# Altium integrated library Diodes - TVS.IntLib: 5379 symbols (part 86 of 122)
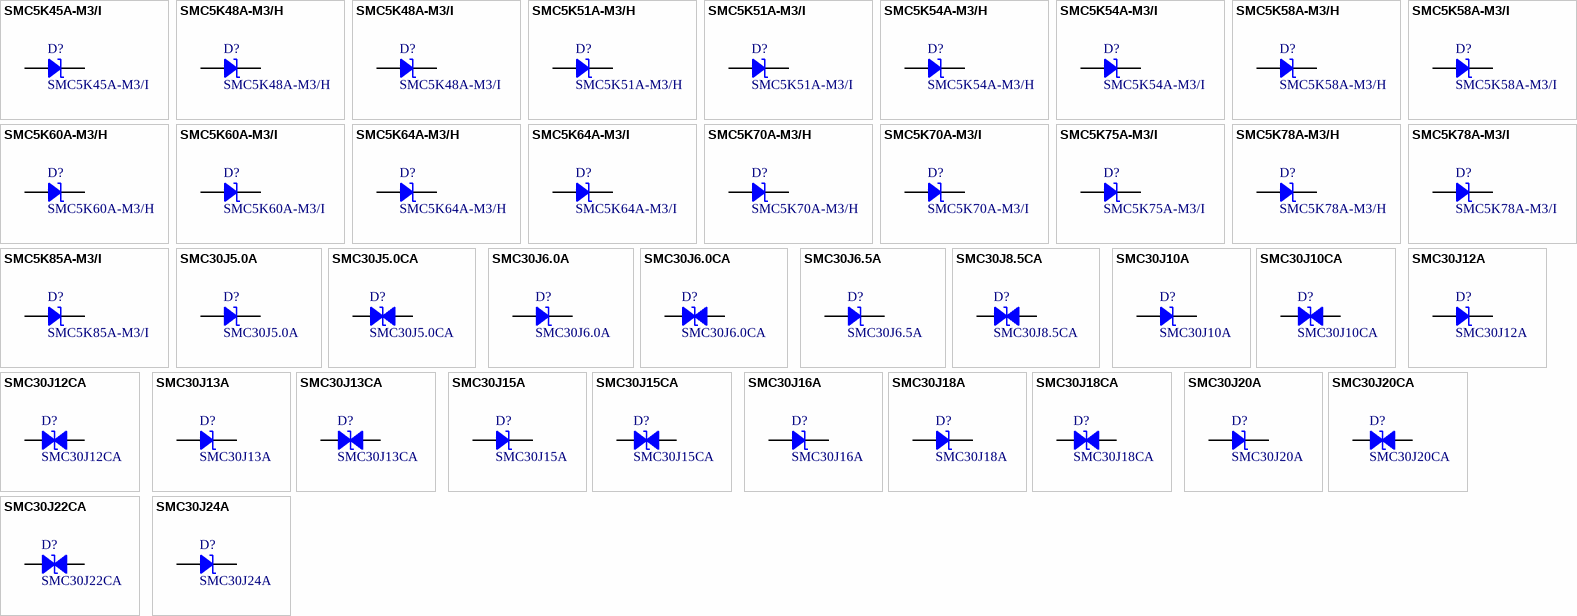
[diagram p219: symbols SMC5K45A-M3/I to SMC30J24A]

## SMC5K60A-M3/H
designator D?
TVS DIODE 60V 96.8V DO214AB; Manufacturer: Vishay Semiconductor Diodes Division; Current - Peak Pulse (10/1000µs): 51.7A; Power Line Protection: No; Power - Peak Pulse: 5000W (5kW); Type: Zener; Unidirectional Channels: 1; Voltage - Breakdown (Min): 66.7V; Part Number: SMC5K60A-M3/H; Applications: Automotive; ComponentLink1Description: Datasheet; ComponentLink1URL: http://www.vishay.com/docs/87742/smc5k10a.pdf; ComponentLink2Description: DigiKey Link; ComponentLink2URL: http://digikey.com/product-detail/en/vishay-semiconductor-diodes-division/SMC5K60A-M3-H/SMC5K60A-M3-HGICT-ND/7427275; LastUpdated: 9/2/2020 1:20:04 AM; Lifecycle Status: Active; Minimum Order: 1; Mounting Type: Surface Mount; Operating Temperature: -55°C ~ 150°C (TJ); Package / Case: DO-214AB, SMC; Packaging: TapeAndReel; PartId: 6844; Part Status: Active; Price: 0.46; Series: Automotive, AEC-Q101, TransZorb®; Supplier 1: DigiKey; Supplier Part Number 1: SMC5K60A-M3/HGICT-ND; Supplier Device Package: DO-214AB (SMC); Voltage - Clamping (Max) @ Ipp: 96.8V; Voltage - Reverse Standoff (Typ): 60V
footprint DO214AB SMC
pins: 1, 2

## SMC5K60A-M3/I
designator D?
TVS DIODE 60V 96.8V DO214AB; Manufacturer: Vishay Semiconductor Diodes Division; Current - Peak Pulse (10/1000µs): 51.7A; Power Line Protection: No; Power - Peak Pulse: 5000W (5kW); Type: Zener; Unidirectional Channels: 1; Voltage - Breakdown (Min): 66.7V; Part Number: SMC5K60A-M3/I; Applications: Automotive; ComponentLink1Description: Datasheet; ComponentLink1URL: http://www.vishay.com/docs/87742/smc5k10a.pdf; ComponentLink2Description: DigiKey Link; ComponentLink2URL: http://digikey.com/product-detail/en/vishay-semiconductor-diodes-division/SMC5K60A-M3-I/SMC5K60A-M3-IGICT-ND/7427276; LastUpdated: 9/2/2020 1:20:04 AM; Lifecycle Status: Active; Minimum Order: 1; Mounting Type: Surface Mount; Operating Temperature: -55°C ~ 150°C (TJ); Package / Case: DO-214AB, SMC; Packaging: TapeAndReel; PartId: 6845; Part Status: Active; Price: 0.37; Series: Automotive, AEC-Q101, TransZorb®; Supplier 1: DigiKey; Supplier Part Number 1: SMC5K60A-M3/IGICT-ND; Supplier Device Package: DO-214AB (SMC); Voltage - Clamping (Max) @ Ipp: 96.8V; Voltage - Reverse Standoff (Typ): 60V
footprint DO214AB SMC
pins: 1, 2

## SMC5K64A-M3/H
designator D?
TVS DIODE 64V 103V DO214AB; Manufacturer: Vishay Semiconductor Diodes Division; Current - Peak Pulse (10/1000µs): 48.5A; Power Line Protection: No; Power - Peak Pulse: 5000W (5kW); Type: Zener; Unidirectional Channels: 1; Voltage - Breakdown (Min): 71.1V; Part Number: SMC5K64A-M3/H; Applications: Automotive; ComponentLink1Description: Datasheet; ComponentLink1URL: http://www.vishay.com/docs/87742/smc5k10a.pdf; ComponentLink2Description: DigiKey Link; ComponentLink2URL: http://digikey.com/product-detail/en/vishay-semiconductor-diodes-division/SMC5K64A-M3-H/SMC5K64A-M3-HGICT-ND/7427277; LastUpdated: 9/2/2020 1:20:05 AM; Lifecycle Status: Active; Minimum Order: 1; Mounting Type: Surface Mount; Operating Temperature: -55°C ~ 150°C (TJ); Package / Case: DO-214AB, SMC; Packaging: TapeAndReel; PartId: 6913; Part Status: Active; Price: 0.46; Series: Automotive, AEC-Q101, TransZorb®; Supplier 1: DigiKey; Supplier Part Number 1: SMC5K64A-M3/HGICT-ND; Supplier Device Package: DO-214AB (SMC); Voltage - Clamping (Max) @ Ipp: 103V; Voltage - Reverse Standoff (Typ): 64V
footprint DO214AB SMC
pins: 1, 2

## SMC5K64A-M3/I
designator D?
TVS DIODE 64V 103V DO214AB; Manufacturer: Vishay Semiconductor Diodes Division; Current - Peak Pulse (10/1000µs): 48.5A; Power Line Protection: No; Power - Peak Pulse: 5000W (5kW); Type: Zener; Unidirectional Channels: 1; Voltage - Breakdown (Min): 71.1V; Part Number: SMC5K64A-M3/I; Applications: Automotive; ComponentLink1Description: Datasheet; ComponentLink1URL: http://www.vishay.com/docs/87742/smc5k10a.pdf; ComponentLink2Description: DigiKey Link; ComponentLink2URL: http://digikey.com/product-detail/en/vishay-semiconductor-diodes-division/SMC5K64A-M3-I/SMC5K64A-M3-IGICT-ND/7427278; LastUpdated: 9/2/2020 1:20:04 AM; Lifecycle Status: Active; Minimum Order: 1; Mounting Type: Surface Mount; Operating Temperature: -55°C ~ 150°C (TJ); Package / Case: DO-214AB, SMC; Packaging: TapeAndReel; PartId: 6848; Part Status: Active; Price: 0.37; Series: Automotive, AEC-Q101, TransZorb®; Supplier 1: DigiKey; Supplier Part Number 1: SMC5K64A-M3/IGICT-ND; Supplier Device Package: DO-214AB (SMC); Voltage - Clamping (Max) @ Ipp: 103V; Voltage - Reverse Standoff (Typ): 64V
footprint DO214AB SMC
pins: 1, 2

## SMC5K70A-M3/H
designator D?
TVS DIODE 70V 113V DO214AB; Manufacturer: Vishay Semiconductor Diodes Division; Current - Peak Pulse (10/1000µs): 44.2A; Power Line Protection: No; Power - Peak Pulse: 5000W (5kW); Type: Zener; Unidirectional Channels: 1; Voltage - Breakdown (Min): 77.8V; Part Number: SMC5K70A-M3/H; Applications: Automotive; ComponentLink1Description: Datasheet; ComponentLink1URL: http://www.vishay.com/docs/87742/smc5k10a.pdf; ComponentLink2Description: DigiKey Link; ComponentLink2URL: http://digikey.com/product-detail/en/vishay-semiconductor-diodes-division/SMC5K70A-M3-H/SMC5K70A-M3-HGICT-ND/7427279; LastUpdated: 9/2/2020 1:20:04 AM; Lifecycle Status: Active; Minimum Order: 1; Mounting Type: Surface Mount; Operating Temperature: -55°C ~ 150°C (TJ); Package / Case: DO-214AB, SMC; Packaging: TapeAndReel; PartId: 6854; Part Status: Active; Price: 0.46; Series: Automotive, AEC-Q101, TransZorb®; Supplier 1: DigiKey; Supplier Part Number 1: SMC5K70A-M3/HGICT-ND; Supplier Device Package: DO-214AB (SMC); Voltage - Clamping (Max) @ Ipp: 113V; Voltage - Reverse Standoff (Typ): 70V
footprint DO214AB SMC
pins: 1, 2

## SMC5K70A-M3/I
designator D?
TVS DIODE 70V 113V DO214AB; Manufacturer: Vishay Semiconductor Diodes Division; Current - Peak Pulse (10/1000µs): 44.2A; Power Line Protection: No; Power - Peak Pulse: 5000W (5kW); Type: Zener; Unidirectional Channels: 1; Voltage - Breakdown (Min): 77.8V; Part Number: SMC5K70A-M3/I; Applications: Automotive; ComponentLink1Description: Datasheet; ComponentLink1URL: http://www.vishay.com/docs/87742/smc5k10a.pdf; ComponentLink2Description: DigiKey Link; ComponentLink2URL: http://digikey.com/product-detail/en/vishay-semiconductor-diodes-division/SMC5K70A-M3-I/SMC5K70A-M3-IGICT-ND/7427280; LastUpdated: 9/2/2020 1:20:04 AM; Lifecycle Status: Active; Minimum Order: 1; Mounting Type: Surface Mount; Operating Temperature: -55°C ~ 150°C (TJ); Package / Case: DO-214AB, SMC; Packaging: TapeAndReel; PartId: 6869; Part Status: Active; Price: 0.37; Series: Automotive, AEC-Q101, TransZorb®; Supplier 1: DigiKey; Supplier Part Number 1: SMC5K70A-M3/IGICT-ND; Supplier Device Package: DO-214AB (SMC); Voltage - Clamping (Max) @ Ipp: 113V; Voltage - Reverse Standoff (Typ): 70V
footprint DO214AB SMC
pins: 1, 2

## SMC5K75A-M3/I
designator D?
TVS DIODE 75V 121V DO214AB; Manufacturer: Vishay Semiconductor Diodes Division; Current - Peak Pulse (10/1000µs): 41.3A; Power Line Protection: No; Power - Peak Pulse: 5000W (5kW); Type: Zener; Unidirectional Channels: 1; Voltage - Breakdown (Min): 83.3V; Part Number: SMC5K75A-M3/I; Applications: Automotive; ComponentLink1Description: Datasheet; ComponentLink1URL: http://www.vishay.com/docs/87742/smc5k10a.pdf; ComponentLink2Description: DigiKey Link; ComponentLink2URL: http://digikey.com/product-detail/en/vishay-semiconductor-diodes-division/SMC5K75A-M3-I/SMC5K75A-M3-IGICT-ND/7427282; LastUpdated: 9/2/2020 1:20:04 AM; Lifecycle Status: Active; Minimum Order: 1; Mounting Type: Surface Mount; Operating Temperature: -55°C ~ 150°C (TJ); Package / Case: DO-214AB, SMC; Packaging: TapeAndReel; PartId: 6868; Part Status: Active; Price: 0.37; Series: Automotive, AEC-Q101, TransZorb®; Supplier 1: DigiKey; Supplier Part Number 1: SMC5K75A-M3/IGICT-ND; Supplier Device Package: DO-214AB (SMC); Voltage - Clamping (Max) @ Ipp: 121V; Voltage - Reverse Standoff (Typ): 75V
footprint DO214AB SMC
pins: 1, 2

## SMC5K78A-M3/H
designator D?
TVS DIODE 78V 126V DO214AB; Manufacturer: Vishay Semiconductor Diodes Division; Current - Peak Pulse (10/1000µs): 39.7A; Power Line Protection: No; Power - Peak Pulse: 5000W (5kW); Type: Zener; Unidirectional Channels: 1; Voltage - Breakdown (Min): 86.7V; Part Number: SMC5K78A-M3/H; Applications: Automotive; ComponentLink1Description: Datasheet; ComponentLink1URL: http://www.vishay.com/docs/87742/smc5k10a.pdf; ComponentLink2Description: DigiKey Link; ComponentLink2URL: http://digikey.com/product-detail/en/vishay-semiconductor-diodes-division/SMC5K78A-M3-H/SMC5K78A-M3-HGICT-ND/7427283; LastUpdated: 9/2/2020 1:20:07 AM; Lifecycle Status: Active; Minimum Order: 1; Mounting Type: Surface Mount; Operating Temperature: -55°C ~ 150°C (TJ); Package / Case: DO-214AB, SMC; Packaging: TapeAndReel; PartId: 7169; Part Status: Active; Price: 0.46; Series: Automotive, AEC-Q101, TransZorb®; Supplier 1: DigiKey; Supplier Part Number 1: SMC5K78A-M3/HGICT-ND; Supplier Device Package: DO-214AB (SMC); Voltage - Clamping (Max) @ Ipp: 126V; Voltage - Reverse Standoff (Typ): 78V
footprint DO214AB SMC
pins: 1, 2

## SMC5K78A-M3/I
designator D?
TVS DIODE 78V 126V DO214AB; Manufacturer: Vishay Semiconductor Diodes Division; Current - Peak Pulse (10/1000µs): 39.7A; Power Line Protection: No; Power - Peak Pulse: 5000W (5kW); Type: Zener; Unidirectional Channels: 1; Voltage - Breakdown (Min): 86.7V; Part Number: SMC5K78A-M3/I; Applications: Automotive; ComponentLink1Description: Datasheet; ComponentLink1URL: http://www.vishay.com/docs/87742/smc5k10a.pdf; ComponentLink2Description: DigiKey Link; ComponentLink2URL: http://digikey.com/product-detail/en/vishay-semiconductor-diodes-division/SMC5K78A-M3-I/SMC5K78A-M3-IGICT-ND/7427284; LastUpdated: 9/2/2020 1:20:07 AM; Lifecycle Status: Active; Minimum Order: 1; Mounting Type: Surface Mount; Operating Temperature: -55°C ~ 150°C (TJ); Package / Case: DO-214AB, SMC; Packaging: TapeAndReel; PartId: 7183; Part Status: Active; Price: 0.37; Series: Automotive, AEC-Q101, TransZorb®; Supplier 1: DigiKey; Supplier Part Number 1: SMC5K78A-M3/IGICT-ND; Supplier Device Package: DO-214AB (SMC); Voltage - Clamping (Max) @ Ipp: 126V; Voltage - Reverse Standoff (Typ): 78V
footprint DO214AB SMC
pins: 1, 2

## SMC5K85A-M3/I
designator D?
TVS DIODE 85V 137V DO214AB; Manufacturer: Vishay Semiconductor Diodes Division; Current - Peak Pulse (10/1000µs): 36.5A; Power Line Protection: No; Power - Peak Pulse: 5000W (5kW); Type: Zener; Unidirectional Channels: 1; Voltage - Breakdown (Min): 94.4V; Part Number: SMC5K85A-M3/I; Applications: Automotive; ComponentLink1Description: Datasheet; ComponentLink1URL: http://www.vishay.com/docs/87742/smc5k10a.pdf; ComponentLink2Description: DigiKey Link; ComponentLink2URL: http://digikey.com/product-detail/en/vishay-semiconductor-diodes-division/SMC5K85A-M3-I/SMC5K85A-M3-IGICT-ND/7427286; LastUpdated: 9/2/2020 1:20:04 AM; Lifecycle Status: Active; Minimum Order: 1; Mounting Type: Surface Mount; Operating Temperature: -55°C ~ 150°C (TJ); Package / Case: DO-214AB, SMC; Packaging: TapeAndReel; PartId: 6867; Part Status: Active; Price: 0.37; Series: Automotive, AEC-Q101, TransZorb®; Supplier 1: DigiKey; Supplier Part Number 1: SMC5K85A-M3/IGICT-ND; Supplier Device Package: DO-214AB (SMC); Voltage - Clamping (Max) @ Ipp: 137V; Voltage - Reverse Standoff (Typ): 85V
footprint DO214AB SMC
pins: 1, 2

## SMC30J5.0A
designator D?
TVS DIODE 5V 9.2V SMC; Manufacturer: STMicroelectronics; Current - Peak Pulse (10/1000µs): 327A; Power Line Protection: No; Power - Peak Pulse: 3000W (3kW); Type: Zener; Unidirectional Channels: 1; Voltage - Breakdown (Min): 6.4V; Part Number: SMC30J5.0A; Applications: General Purpose; ComponentLink1Description: Datasheet; ComponentLink1URL: http://www.st.com/content/ccc/resource/technical/document/datasheet/83/fa/eb/3e/f9/c8/4f/44/DM00035134.pdf/files/DM00035134.pdf/jcr:content/translations/en.DM00035134.pdf; ComponentLink2Description: DigiKey Link; ComponentLink2URL: http://digikey.com/product-detail/en/stmicroelectronics/SMC30J5.0A/497-12222-1-ND/2826695; LastUpdated: 9/2/2020 1:20:02 AM; Lifecycle Status: Active; Minimum Order: 1; Mounting Type: Surface Mount; Operating Temperature: -55°C ~ 175°C (TJ); Package / Case: DO-214AB, SMC; Packaging: TapeAndReel; PartId: 6610; Part Status: Active; Price: 0.41; Series: SMC30J, TRANSIL™; Supplier 1: DigiKey; Supplier Part Number 1: 497-12222-1-ND; Supplier Device Package: SMC; Voltage - Clamping (Max) @ Ipp: 9.2V; Voltage - Reverse Standoff (Typ): 5V
footprint DO214AB SMC
pins: 1, 2

## SMC30J5.0CA
designator D?
TVS DIODE 5V 9.2V SMC; Manufacturer: STMicroelectronics; Bidirectional Channels: 1; Current - Peak Pulse (10/1000µs): 327A; Power Line Protection: No; Power - Peak Pulse: 3000W (3kW); Type: Zener; Voltage - Breakdown (Min): 6.4V; Part Number: SMC30J5.0CA; Applications: General Purpose; ComponentLink1Description: Datasheet; ComponentLink1URL: http://www.st.com/content/ccc/resource/technical/document/datasheet/83/fa/eb/3e/f9/c8/4f/44/DM00035134.pdf/files/DM00035134.pdf/jcr:content/translations/en.DM00035134.pdf; ComponentLink2Description: DigiKey Link; ComponentLink2URL: http://digikey.com/product-detail/en/stmicroelectronics/SMC30J5.0CA/497-12223-1-ND/2826696; LastUpdated: 9/2/2020 1:28:08 AM; Lifecycle Status: Active; Minimum Order: 1; Mounting Type: Surface Mount; Operating Temperature: -55°C ~ 175°C (TJ); Package / Case: DO-214AB, SMC; Packaging: TapeAndReel; PartId: 8619; Part Status: Active; Price: 0.43; Series: SMC30J, TRANSIL™; Supplier 1: DigiKey; Supplier Part Number 1: 497-12223-1-ND; Supplier Device Package: SMC; Voltage - Clamping (Max) @ Ipp: 9.2V; Voltage - Reverse Standoff (Typ): 5V
footprint DO214AB SMC
pins: 1, 2

## SMC30J6.0A
designator D?
TVS DIODE 6V 10.3V SMC; Manufacturer: STMicroelectronics; Current - Peak Pulse (10/1000µs): 291A; Power Line Protection: No; Power - Peak Pulse: 3000W (3kW); Type: Zener; Unidirectional Channels: 1; Voltage - Breakdown (Min): 6.7V; Part Number: SMC30J6.0A; Applications: General Purpose; ComponentLink1Description: Datasheet; ComponentLink1URL: http://www.st.com/content/ccc/resource/technical/document/datasheet/83/fa/eb/3e/f9/c8/4f/44/DM00035134.pdf/files/DM00035134.pdf/jcr:content/translations/en.DM00035134.pdf; ComponentLink2Description: DigiKey Link; ComponentLink2URL: http://digikey.com/product-detail/en/stmicroelectronics/SMC30J6.0A/497-12224-1-ND/2826697; LastUpdated: 9/2/2020 1:20:06 AM; Lifecycle Status: Active; Minimum Order: 1; Mounting Type: Surface Mount; Operating Temperature: -55°C ~ 175°C (TJ); Package / Case: DO-214AB, SMC; Packaging: TapeAndReel; PartId: 7011; Part Status: Active; Price: 0.41; Series: SMC30J, TRANSIL™; Supplier 1: DigiKey; Supplier Part Number 1: 497-12224-1-ND; Supplier Device Package: SMC; Voltage - Clamping (Max) @ Ipp: 10.3V; Voltage - Reverse Standoff (Typ): 6V
footprint DO214AB SMC
pins: 1, 2

## SMC30J6.0CA
designator D?
TVS DIODE 6V 10.3V SMC; Manufacturer: STMicroelectronics; Bidirectional Channels: 1; Current - Peak Pulse (10/1000µs): 291A; Power Line Protection: No; Power - Peak Pulse: 3000W (3kW); Type: Zener; Voltage - Breakdown (Min): 6.7V; Part Number: SMC30J6.0CA; Applications: General Purpose; ComponentLink1Description: Datasheet; ComponentLink1URL: http://www.st.com/content/ccc/resource/technical/document/datasheet/83/fa/eb/3e/f9/c8/4f/44/DM00035134.pdf/files/DM00035134.pdf/jcr:content/translations/en.DM00035134.pdf; ComponentLink2Description: DigiKey Link; ComponentLink2URL: http://digikey.com/product-detail/en/stmicroelectronics/SMC30J6.0CA/497-12225-1-ND/2826698; LastUpdated: 9/2/2020 1:28:08 AM; Lifecycle Status: Active; Minimum Order: 1; Mounting Type: Surface Mount; Operating Temperature: -55°C ~ 175°C (TJ); Package / Case: DO-214AB, SMC; Packaging: TapeAndReel; PartId: 8632; Part Status: Active; Price: 0.43; Series: SMC30J, TRANSIL™; Supplier 1: DigiKey; Supplier Part Number 1: 497-12225-1-ND; Supplier Device Package: SMC; Voltage - Clamping (Max) @ Ipp: 10.3V; Voltage - Reverse Standoff (Typ): 6V
footprint DO214AB SMC
pins: 1, 2

## SMC30J6.5A
designator D?
TVS DIODE 6.5V 11.2V SMC; Manufacturer: STMicroelectronics; Current - Peak Pulse (10/1000µs): 268A; Power Line Protection: No; Power - Peak Pulse: 3000W (3kW); Type: Zener; Unidirectional Channels: 1; Voltage - Breakdown (Min): 7.2V; Part Number: SMC30J6.5A; Applications: General Purpose; ComponentLink1Description: Datasheet; ComponentLink1URL: http://www.st.com/content/ccc/resource/technical/document/datasheet/83/fa/eb/3e/f9/c8/4f/44/DM00035134.pdf/files/DM00035134.pdf/jcr:content/translations/en.DM00035134.pdf; ComponentLink2Description: DigiKey Link; ComponentLink2URL: http://digikey.com/product-detail/en/stmicroelectronics/SMC30J6.5A/497-12226-1-ND/2826699; LastUpdated: 9/2/2020 1:20:07 AM; Lifecycle Status: Active; Minimum Order: 1; Mounting Type: Surface Mount; Operating Temperature: -55°C ~ 175°C (TJ); Package / Case: DO-214AB, SMC; Packaging: TapeAndReel; PartId: 7095; Part Status: Active; Price: 0.41; Series: SMC30J, TRANSIL™; Supplier 1: DigiKey; Supplier Part Number 1: 497-12226-1-ND; Supplier Device Package: SMC; Voltage - Clamping (Max) @ Ipp: 11.2V; Voltage - Reverse Standoff (Typ): 6.5V
footprint DO214AB SMC
pins: 1, 2

## SMC30J8.5CA
designator D?
TVS DIODE 8.5V 14.4V SMC; Manufacturer: STMicroelectronics; Bidirectional Channels: 1; Current - Peak Pulse (10/1000µs): 208A; Power Line Protection: No; Power - Peak Pulse: 3000W (3kW); Type: Zener; Voltage - Breakdown (Min): 9.4V; Part Number: SMC30J8.5CA; Applications: General Purpose; ComponentLink1Description: Datasheet; ComponentLink1URL: http://www.st.com/content/ccc/resource/technical/document/datasheet/83/fa/eb/3e/f9/c8/4f/44/DM00035134.pdf/files/DM00035134.pdf/jcr:content/translations/en.DM00035134.pdf; ComponentLink2Description: DigiKey Link; ComponentLink2URL: http://digikey.com/product-detail/en/stmicroelectronics/SMC30J8.5CA/497-12229-1-ND/2826702; LastUpdated: 9/2/2020 1:28:07 AM; Lifecycle Status: Active; Minimum Order: 1; Mounting Type: Surface Mount; Operating Temperature: -55°C ~ 175°C (TJ); Package / Case: DO-214AB, SMC; Packaging: TapeAndReel; PartId: 8568; Part Status: Active; Price: 0.43; Series: SMC30J, TRANSIL™; Supplier 1: DigiKey; Supplier Part Number 1: 497-12229-1-ND; Supplier Device Package: SMC; Voltage - Clamping (Max) @ Ipp: 14.4V; Voltage - Reverse Standoff (Typ): 8.5V
footprint DO214AB SMC
pins: 1, 2

## SMC30J10A
designator D?
TVS DIODE 10V 17V SMC; Manufacturer: STMicroelectronics; Current - Peak Pulse (10/1000µs): 176A; Power Line Protection: No; Power - Peak Pulse: 3000W (3kW); Type: Zener; Unidirectional Channels: 1; Voltage - Breakdown (Min): 11.1V; Part Number: SMC30J10A; Applications: General Purpose; ComponentLink1Description: Datasheet; ComponentLink1URL: http://www.st.com/content/ccc/resource/technical/document/datasheet/83/fa/eb/3e/f9/c8/4f/44/DM00035134.pdf/files/DM00035134.pdf/jcr:content/translations/en.DM00035134.pdf; ComponentLink2Description: DigiKey Link; ComponentLink2URL: http://digikey.com/product-detail/en/stmicroelectronics/SMC30J10A/497-12197-1-ND/2826670; LastUpdated: 9/2/2020 1:20:07 AM; Lifecycle Status: Active; Minimum Order: 1; Mounting Type: Surface Mount; Operating Temperature: -55°C ~ 175°C (TJ); Package / Case: DO-214AB, SMC; Packaging: TapeAndReel; PartId: 7098; Part Status: Active; Price: 0.41; Series: SMC30J, TRANSIL™; Supplier 1: DigiKey; Supplier Part Number 1: 497-12197-1-ND; Supplier Device Package: SMC; Voltage - Clamping (Max) @ Ipp: 17V; Voltage - Reverse Standoff (Typ): 10V
footprint DO214AB SMC
pins: 1, 2

## SMC30J10CA
designator D?
TVS DIODE 10V 17V SMC; Manufacturer: STMicroelectronics; Bidirectional Channels: 1; Current - Peak Pulse (10/1000µs): 176A; Power Line Protection: No; Power - Peak Pulse: 3000W (3kW); Type: Zener; Voltage - Breakdown (Min): 11.1V; Part Number: SMC30J10CA; Applications: General Purpose; ComponentLink1Description: Datasheet; ComponentLink1URL: http://www.st.com/content/ccc/resource/technical/document/datasheet/83/fa/eb/3e/f9/c8/4f/44/DM00035134.pdf/files/DM00035134.pdf/jcr:content/translations/en.DM00035134.pdf; ComponentLink2Description: DigiKey Link; ComponentLink2URL: http://digikey.com/product-detail/en/stmicroelectronics/SMC30J10CA/497-12198-1-ND/2826671; LastUpdated: 9/2/2020 1:28:08 AM; Lifecycle Status: Active; Minimum Order: 1; Mounting Type: Surface Mount; Operating Temperature: -55°C ~ 175°C (TJ); Package / Case: DO-214AB, SMC; Packaging: TapeAndReel; PartId: 8631; Part Status: Active; Price: 0.43; Series: SMC30J, TRANSIL™; Supplier 1: DigiKey; Supplier Part Number 1: 497-12198-1-ND; Supplier Device Package: SMC; Voltage - Clamping (Max) @ Ipp: 17V; Voltage - Reverse Standoff (Typ): 10V
footprint DO214AB SMC
pins: 1, 2

## SMC30J12A
designator D?
TVS DIODE 12V 19.9V SMC; Manufacturer: STMicroelectronics; Current - Peak Pulse (10/1000µs): 151A; Power Line Protection: No; Power - Peak Pulse: 3000W (3kW); Type: Zener; Unidirectional Channels: 1; Voltage - Breakdown (Min): 13.3V; Part Number: SMC30J12A; Applications: General Purpose; ComponentLink1Description: Datasheet; ComponentLink1URL: http://www.st.com/content/ccc/resource/technical/document/datasheet/83/fa/eb/3e/f9/c8/4f/44/DM00035134.pdf/files/DM00035134.pdf/jcr:content/translations/en.DM00035134.pdf; ComponentLink2Description: DigiKey Link; ComponentLink2URL: http://digikey.com/product-detail/en/stmicroelectronics/SMC30J12A/497-12199-1-ND/2826672; LastUpdated: 9/2/2020 1:20:07 AM; Lifecycle Status: Active; Minimum Order: 1; Mounting Type: Surface Mount; Operating Temperature: -55°C ~ 175°C (TJ); Package / Case: DO-214AB, SMC; Packaging: TapeAndReel; PartId: 7099; Part Status: Active; Price: 0.41; Series: SMC30J, TRANSIL™; Supplier 1: DigiKey; Supplier Part Number 1: 497-12199-1-ND; Supplier Device Package: SMC; Voltage - Clamping (Max) @ Ipp: 19.9V; Voltage - Reverse Standoff (Typ): 12V
footprint DO214AB SMC
pins: 1, 2

## SMC30J12CA
designator D?
TVS DIODE 12V 19.9V SMC; Manufacturer: STMicroelectronics; Bidirectional Channels: 1; Current - Peak Pulse (10/1000µs): 151A; Power Line Protection: No; Power - Peak Pulse: 3000W (3kW); Type: Zener; Voltage - Breakdown (Min): 13.3V; Part Number: SMC30J12CA; Applications: General Purpose; ComponentLink1Description: Datasheet; ComponentLink1URL: http://www.st.com/content/ccc/resource/technical/document/datasheet/83/fa/eb/3e/f9/c8/4f/44/DM00035134.pdf/files/DM00035134.pdf/jcr:content/translations/en.DM00035134.pdf; ComponentLink2Description: DigiKey Link; ComponentLink2URL: http://digikey.com/product-detail/en/stmicroelectronics/SMC30J12CA/497-12200-1-ND/2826673; LastUpdated: 9/2/2020 1:28:01 AM; Lifecycle Status: Active; Minimum Order: 1; Mounting Type: Surface Mount; Operating Temperature: -55°C ~ 175°C (TJ); Package / Case: DO-214AB, SMC; Packaging: TapeAndReel; PartId: 7908; Part Status: Active; Price: 0.43; Series: SMC30J, TRANSIL™; Supplier 1: DigiKey; Supplier Part Number 1: 497-12200-1-ND; Supplier Device Package: SMC; Voltage - Clamping (Max) @ Ipp: 19.9V; Voltage - Reverse Standoff (Typ): 12V
footprint DO214AB SMC
pins: 1, 2

## SMC30J13A
designator D?
TVS DIODE 13V 21.5V SMC; Manufacturer: STMicroelectronics; Current - Peak Pulse (10/1000µs): 140A; Power Line Protection: No; Power - Peak Pulse: 3000W (3kW); Type: Zener; Unidirectional Channels: 1; Voltage - Breakdown (Min): 14.4V; Part Number: SMC30J13A; Applications: General Purpose; ComponentLink1Description: Datasheet; ComponentLink1URL: http://www.st.com/content/ccc/resource/technical/document/datasheet/83/fa/eb/3e/f9/c8/4f/44/DM00035134.pdf/files/DM00035134.pdf/jcr:content/translations/en.DM00035134.pdf; ComponentLink2Description: DigiKey Link; ComponentLink2URL: http://digikey.com/product-detail/en/stmicroelectronics/SMC30J13A/497-12201-1-ND/2826674; LastUpdated: 9/2/2020 1:19:58 AM; Lifecycle Status: Active; Minimum Order: 1; Mounting Type: Surface Mount; Operating Temperature: -55°C ~ 175°C (TJ); Package / Case: DO-214AB, SMC; Packaging: TapeAndReel; PartId: 6261; Part Status: Active; Price: 0.41; Series: SMC30J, TRANSIL™; Supplier 1: DigiKey; Supplier Part Number 1: 497-12201-1-ND; Supplier Device Package: SMC; Voltage - Clamping (Max) @ Ipp: 21.5V; Voltage - Reverse Standoff (Typ): 13V
footprint DO214AB SMC
pins: 1, 2

## SMC30J13CA
designator D?
TVS DIODE 13V 21.5V SMC; Manufacturer: STMicroelectronics; Bidirectional Channels: 1; Current - Peak Pulse (10/1000µs): 140A; Power Line Protection: No; Power - Peak Pulse: 3000W (3kW); Type: Zener; Voltage - Breakdown (Min): 14.4V; Part Number: SMC30J13CA; Applications: General Purpose; ComponentLink1Description: Datasheet; ComponentLink1URL: http://www.st.com/content/ccc/resource/technical/document/datasheet/83/fa/eb/3e/f9/c8/4f/44/DM00035134.pdf/files/DM00035134.pdf/jcr:content/translations/en.DM00035134.pdf; ComponentLink2Description: DigiKey Link; ComponentLink2URL: http://digikey.com/product-detail/en/stmicroelectronics/SMC30J13CA/497-12202-1-ND/2826675; LastUpdated: 9/2/2020 1:28:08 AM; Lifecycle Status: Active; Minimum Order: 1; Mounting Type: Surface Mount; Operating Temperature: -55°C ~ 175°C (TJ); Package / Case: DO-214AB, SMC; Packaging: TapeAndReel; PartId: 8621; Part Status: Active; Price: 0.43; Series: SMC30J, TRANSIL™; Supplier 1: DigiKey; Supplier Part Number 1: 497-12202-1-ND; Supplier Device Package: SMC; Voltage - Clamping (Max) @ Ipp: 21.5V; Voltage - Reverse Standoff (Typ): 13V
footprint DO214AB SMC
pins: 1, 2

## SMC30J15A
designator D?
TVS DIODE 15V 24.4V SMC; Manufacturer: STMicroelectronics; Current - Peak Pulse (10/1000µs): 123A; Power Line Protection: No; Power - Peak Pulse: 3000W (3kW); Type: Zener; Unidirectional Channels: 1; Voltage - Breakdown (Min): 16.7V; Part Number: SMC30J15A; Applications: General Purpose; ComponentLink1Description: Datasheet; ComponentLink1URL: http://www.st.com/content/ccc/resource/technical/document/datasheet/83/fa/eb/3e/f9/c8/4f/44/DM00035134.pdf/files/DM00035134.pdf/jcr:content/translations/en.DM00035134.pdf; ComponentLink2Description: DigiKey Link; ComponentLink2URL: http://digikey.com/product-detail/en/stmicroelectronics/SMC30J15A/497-SMC30J15ACT-ND/2826676; LastUpdated: 9/2/2020 1:19:58 AM; Lifecycle Status: Active; Minimum Order: 1; Mounting Type: Surface Mount; Operating Temperature: -55°C ~ 175°C (TJ); Package / Case: DO-214AB, SMC; Packaging: TapeAndReel; PartId: 6218; Part Status: Active; Price: 0.41; Series: SMC30J, TRANSIL™; Supplier 1: DigiKey; Supplier Part Number 1: 497-SMC30J15ACT-ND; Supplier Device Package: SMC; Voltage - Clamping (Max) @ Ipp: 24.4V; Voltage - Reverse Standoff (Typ): 15V
footprint DO214AB SMC
pins: 1, 2

## SMC30J15CA
designator D?
TVS DIODE 15V 24.4V SMC; Manufacturer: STMicroelectronics; Bidirectional Channels: 1; Current - Peak Pulse (10/1000µs): 123A; Power Line Protection: No; Power - Peak Pulse: 3000W (3kW); Type: Zener; Voltage - Breakdown (Min): 16.7V; Part Number: SMC30J15CA; Applications: General Purpose; ComponentLink1Description: Datasheet; ComponentLink1URL: http://www.st.com/content/ccc/resource/technical/document/datasheet/83/fa/eb/3e/f9/c8/4f/44/DM00035134.pdf/files/DM00035134.pdf/jcr:content/translations/en.DM00035134.pdf; ComponentLink2Description: DigiKey Link; ComponentLink2URL: http://digikey.com/product-detail/en/stmicroelectronics/SMC30J15CA/497-12204-1-ND/2826677; LastUpdated: 9/2/2020 1:28:07 AM; Lifecycle Status: Active; Minimum Order: 1; Mounting Type: Surface Mount; Operating Temperature: -55°C ~ 175°C (TJ); Package / Case: DO-214AB, SMC; Packaging: TapeAndReel; PartId: 8595; Part Status: Active; Price: 0.43; Series: SMC30J, TRANSIL™; Supplier 1: DigiKey; Supplier Part Number 1: 497-12204-1-ND; Supplier Device Package: SMC; Voltage - Clamping (Max) @ Ipp: 24.4V; Voltage - Reverse Standoff (Typ): 15V
footprint DO214AB SMC
pins: 1, 2

## SMC30J16A
designator D?
TVS DIODE 16V 26V SMC; Manufacturer: STMicroelectronics; Current - Peak Pulse (10/1000µs): 115A; Power Line Protection: No; Power - Peak Pulse: 3000W (3kW); Type: Zener; Unidirectional Channels: 1; Voltage - Breakdown (Min): 17.8V; Part Number: SMC30J16A; Applications: General Purpose; ComponentLink1Description: Datasheet; ComponentLink1URL: http://www.st.com/content/ccc/resource/technical/document/datasheet/83/fa/eb/3e/f9/c8/4f/44/DM00035134.pdf/files/DM00035134.pdf/jcr:content/translations/en.DM00035134.pdf; ComponentLink2Description: DigiKey Link; ComponentLink2URL: http://digikey.com/product-detail/en/stmicroelectronics/SMC30J16A/497-12205-1-ND/2826678; LastUpdated: 9/2/2020 1:20:07 AM; Lifecycle Status: Active; Minimum Order: 1; Mounting Type: Surface Mount; Operating Temperature: -55°C ~ 175°C (TJ); Package / Case: DO-214AB, SMC; Packaging: TapeAndReel; PartId: 7093; Part Status: Active; Price: 0.41; Series: SMC30J, TRANSIL™; Supplier 1: DigiKey; Supplier Part Number 1: 497-12205-1-ND; Supplier Device Package: SMC; Voltage - Clamping (Max) @ Ipp: 26V; Voltage - Reverse Standoff (Typ): 16V
footprint DO214AB SMC
pins: 1, 2

## SMC30J18A
designator D?
TVS DIODE 18V 29.2V SMC; Manufacturer: STMicroelectronics; Current - Peak Pulse (10/1000µs): 103A; Power Line Protection: No; Power - Peak Pulse: 3000W (3kW); Type: Zener; Unidirectional Channels: 1; Voltage - Breakdown (Min): 20V; Part Number: SMC30J18A; Applications: General Purpose; ComponentLink1Description: Datasheet; ComponentLink1URL: http://www.st.com/content/ccc/resource/technical/document/datasheet/83/fa/eb/3e/f9/c8/4f/44/DM00035134.pdf/files/DM00035134.pdf/jcr:content/translations/en.DM00035134.pdf; ComponentLink2Description: DigiKey Link; ComponentLink2URL: http://digikey.com/product-detail/en/stmicroelectronics/SMC30J18A/497-12207-1-ND/2826680; LastUpdated: 9/2/2020 1:19:58 AM; Lifecycle Status: Active; Minimum Order: 1; Mounting Type: Surface Mount; Operating Temperature: -55°C ~ 175°C (TJ); Package / Case: DO-214AB, SMC; Packaging: TapeAndReel; PartId: 6262; Part Status: Active; Price: 0.41; Series: SMC30J, TRANSIL™; Supplier 1: DigiKey; Supplier Part Number 1: 497-12207-1-ND; Supplier Device Package: SMC; Voltage - Clamping (Max) @ Ipp: 29.2V; Voltage - Reverse Standoff (Typ): 18V
footprint DO214AB SMC
pins: 1, 2

## SMC30J18CA
designator D?
TVS DIODE 18V 29.2V SMC; Manufacturer: STMicroelectronics; Bidirectional Channels: 1; Current - Peak Pulse (10/1000µs): 103A; Power Line Protection: No; Power - Peak Pulse: 3000W (3kW); Type: Zener; Voltage - Breakdown (Min): 20V; Part Number: SMC30J18CA; Applications: General Purpose; ComponentLink1Description: Datasheet; ComponentLink1URL: http://www.st.com/content/ccc/resource/technical/document/datasheet/83/fa/eb/3e/f9/c8/4f/44/DM00035134.pdf/files/DM00035134.pdf/jcr:content/translations/en.DM00035134.pdf; ComponentLink2Description: DigiKey Link; ComponentLink2URL: http://digikey.com/product-detail/en/stmicroelectronics/SMC30J18CA/497-12208-1-ND/2826681; LastUpdated: 9/2/2020 1:28:01 AM; Lifecycle Status: Active; Minimum Order: 1; Mounting Type: Surface Mount; Operating Temperature: -55°C ~ 175°C (TJ); Package / Case: DO-214AB, SMC; Packaging: TapeAndReel; PartId: 7909; Part Status: Active; Price: 0.43; Series: SMC30J, TRANSIL™; Supplier 1: DigiKey; Supplier Part Number 1: 497-12208-1-ND; Supplier Device Package: SMC; Voltage - Clamping (Max) @ Ipp: 29.2V; Voltage - Reverse Standoff (Typ): 18V
footprint DO214AB SMC
pins: 1, 2

## SMC30J20A
designator D?
TVS DIODE 20V 32.4V SMC; Manufacturer: STMicroelectronics; Current - Peak Pulse (10/1000µs): 93A; Power Line Protection: No; Power - Peak Pulse: 3000W (3kW); Type: Zener; Unidirectional Channels: 1; Voltage - Breakdown (Min): 22.2V; Part Number: SMC30J20A; Applications: General Purpose; ComponentLink1Description: Datasheet; ComponentLink1URL: http://www.st.com/content/ccc/resource/technical/document/datasheet/83/fa/eb/3e/f9/c8/4f/44/DM00035134.pdf/files/DM00035134.pdf/jcr:content/translations/en.DM00035134.pdf; ComponentLink2Description: DigiKey Link; ComponentLink2URL: http://digikey.com/product-detail/en/stmicroelectronics/SMC30J20A/497-12209-1-ND/2826682; LastUpdated: 9/2/2020 1:20:07 AM; Lifecycle Status: Active; Minimum Order: 1; Mounting Type: Surface Mount; Operating Temperature: -55°C ~ 175°C (TJ); Package / Case: DO-214AB, SMC; Packaging: TapeAndReel; PartId: 7097; Part Status: Active; Price: 0.41; Series: SMC30J, TRANSIL™; Supplier 1: DigiKey; Supplier Part Number 1: 497-12209-1-ND; Supplier Device Package: SMC; Voltage - Clamping (Max) @ Ipp: 32.4V; Voltage - Reverse Standoff (Typ): 20V
footprint DO214AB SMC
pins: 1, 2

## SMC30J20CA
designator D?
TVS DIODE 20V 32.4V SMC; Manufacturer: STMicroelectronics; Bidirectional Channels: 1; Current - Peak Pulse (10/1000µs): 93A; Power Line Protection: No; Power - Peak Pulse: 3000W (3kW); Type: Zener; Voltage - Breakdown (Min): 22.2V; Part Number: SMC30J20CA; Applications: General Purpose; ComponentLink1Description: Datasheet; ComponentLink1URL: http://www.st.com/content/ccc/resource/technical/document/datasheet/83/fa/eb/3e/f9/c8/4f/44/DM00035134.pdf/files/DM00035134.pdf/jcr:content/translations/en.DM00035134.pdf; ComponentLink2Description: DigiKey Link; ComponentLink2URL: http://digikey.com/product-detail/en/stmicroelectronics/SMC30J20CA/497-12210-1-ND/2826683; LastUpdated: 9/2/2020 1:28:08 AM; Lifecycle Status: Active; Minimum Order: 1; Mounting Type: Surface Mount; Operating Temperature: -55°C ~ 175°C (TJ); Package / Case: DO-214AB, SMC; Packaging: TapeAndReel; PartId: 8634; Part Status: Active; Price: 0.43; Series: SMC30J, TRANSIL™; Supplier 1: DigiKey; Supplier Part Number 1: 497-12210-1-ND; Supplier Device Package: SMC; Voltage - Clamping (Max) @ Ipp: 32.4V; Voltage - Reverse Standoff (Typ): 20V
footprint DO214AB SMC
pins: 1, 2

## SMC30J22CA
designator D?
TVS DIODE 22V 35.5V SMC; Manufacturer: STMicroelectronics; Bidirectional Channels: 1; Current - Peak Pulse (10/1000µs): 85A; Power Line Protection: No; Power - Peak Pulse: 3000W (3kW); Type: Zener; Voltage - Breakdown (Min): 24.4V; Part Number: SMC30J22CA; Applications: General Purpose; ComponentLink1Description: Datasheet; ComponentLink1URL: http://www.st.com/content/ccc/resource/technical/document/datasheet/83/fa/eb/3e/f9/c8/4f/44/DM00035134.pdf/files/DM00035134.pdf/jcr:content/translations/en.DM00035134.pdf; ComponentLink2Description: DigiKey Link; ComponentLink2URL: http://digikey.com/product-detail/en/stmicroelectronics/SMC30J22CA/497-12212-1-ND/2826685; LastUpdated: 9/2/2020 1:28:07 AM; Lifecycle Status: Active; Minimum Order: 1; Mounting Type: Surface Mount; Operating Temperature: -55°C ~ 175°C (TJ); Package / Case: DO-214AB, SMC; Packaging: TapeAndReel; PartId: 8594; Part Status: Active; Price: 0.43; Series: SMC30J, TRANSIL™; Supplier 1: DigiKey; Supplier Part Number 1: 497-12212-1-ND; Supplier Device Package: SMC; Voltage - Clamping (Max) @ Ipp: 35.5V; Voltage - Reverse Standoff (Typ): 22V
footprint DO214AB SMC
pins: 1, 2

## SMC30J24A
designator D?
TVS DIODE 24V 38.9V SMC; Manufacturer: STMicroelectronics; Current - Peak Pulse (10/1000µs): 77A; Power Line Protection: No; Power - Peak Pulse: 3000W (3kW); Type: Zener; Unidirectional Channels: 1; Voltage - Breakdown (Min): 26.7V; Part Number: SMC30J24A; Applications: General Purpose; ComponentLink1Description: Datasheet; ComponentLink1URL: http://www.st.com/content/ccc/resource/technical/document/datasheet/83/fa/eb/3e/f9/c8/4f/44/DM00035134.pdf/files/DM00035134.pdf/jcr:content/translations/en.DM00035134.pdf; ComponentLink2Description: DigiKey Link; ComponentLink2URL: http://digikey.com/product-detail/en/stmicroelectronics/SMC30J24A/497-12213-1-ND/2826686; LastUpdated: 9/2/2020 1:20:06 AM; Lifecycle Status: Active; Minimum Order: 1; Mounting Type: Surface Mount; Operating Temperature: -55°C ~ 175°C (TJ); Package / Case: DO-214AB, SMC; Packaging: TapeAndReel; PartId: 7038; Part Status: Active; Price: 0.41; Series: SMC30J, TRANSIL™; Supplier 1: DigiKey; Supplier Part Number 1: 497-12213-1-ND; Supplier Device Package: SMC; Voltage - Clamping (Max) @ Ipp: 38.9V; Voltage - Reverse Standoff (Typ): 24V
footprint DO214AB SMC
pins: 1, 2

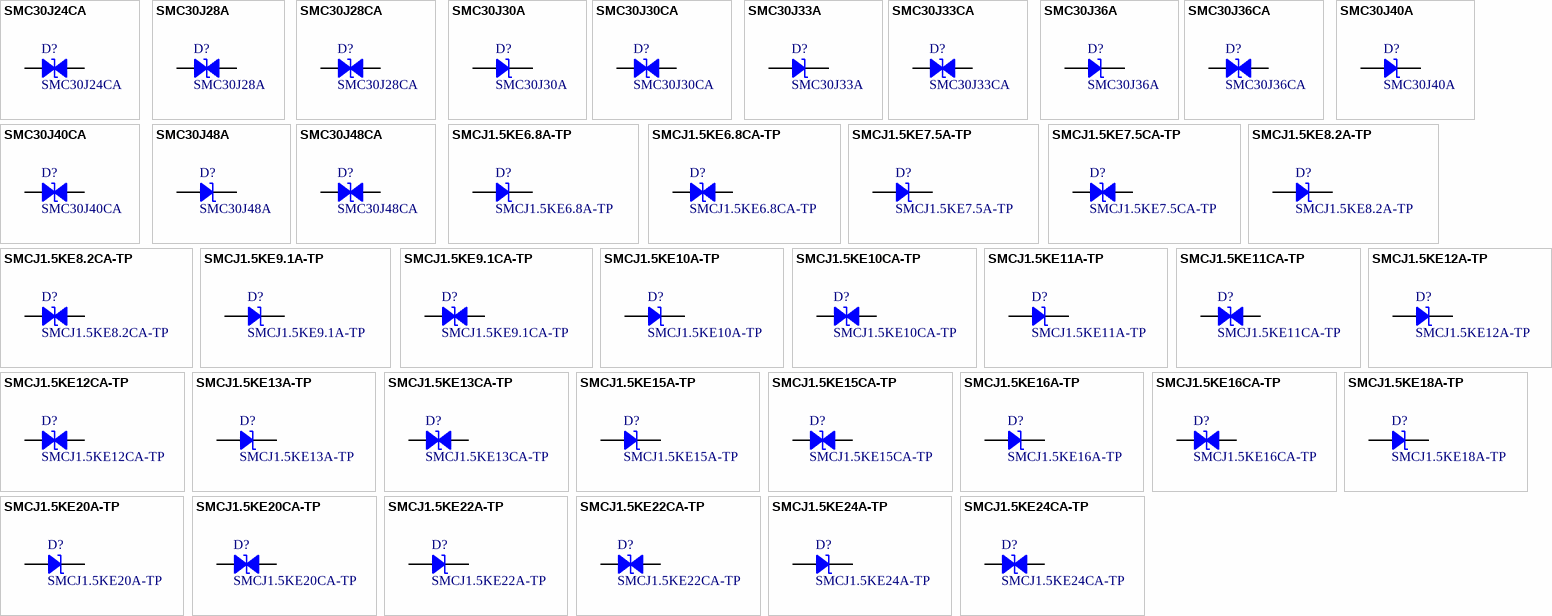
[diagram p95: symbols SMC30J24CA to SMCJ1.5KE24CA-TP]

## SMC30J24CA
designator D?
TVS DIODE 24V 38.9V SMC; Manufacturer: STMicroelectronics; Bidirectional Channels: 1; Current - Peak Pulse (10/1000µs): 77A; Power Line Protection: No; Power - Peak Pulse: 3000W (3kW); Type: Zener; Voltage - Breakdown (Min): 26.7V; Part Number: SMC30J24CA; Applications: General Purpose; ComponentLink1Description: Datasheet; ComponentLink1URL: http://www.st.com/content/ccc/resource/technical/document/datasheet/83/fa/eb/3e/f9/c8/4f/44/DM00035134.pdf/files/DM00035134.pdf/jcr:content/translations/en.DM00035134.pdf; ComponentLink2Description: DigiKey Link; ComponentLink2URL: http://digikey.com/product-detail/en/stmicroelectronics/SMC30J24CA/497-12214-1-ND/2826687; LastUpdated: 9/2/2020 1:28:07 AM; Lifecycle Status: Active; Minimum Order: 1; Mounting Type: Surface Mount; Operating Temperature: -55°C ~ 175°C (TJ); Package / Case: DO-214AB, SMC; Packaging: TapeAndReel; PartId: 8593; Part Status: Active; Price: 0.43; Series: SMC30J, TRANSIL™; Supplier 1: DigiKey; Supplier Part Number 1: 497-12214-1-ND; Supplier Device Package: SMC; Voltage - Clamping (Max) @ Ipp: 38.9V; Voltage - Reverse Standoff (Typ): 24V
footprint DO214AB SMC
pins: 1, 2

## SMC30J28A
designator D?
TVS DIODE 28V 45.4V SMC; Manufacturer: STMicroelectronics; Bidirectional Channels: 1; Current - Peak Pulse (10/1000µs): 66A; Power Line Protection: No; Power - Peak Pulse: 3000W (3kW); Type: Zener; Voltage - Breakdown (Min): 31.1V; Part Number: SMC30J28A; Applications: General Purpose; ComponentLink1Description: Datasheet; ComponentLink1URL: http://www.st.com/content/ccc/resource/technical/document/datasheet/83/fa/eb/3e/f9/c8/4f/44/DM00035134.pdf/files/DM00035134.pdf/jcr:content/translations/en.DM00035134.pdf; ComponentLink2Description: DigiKey Link; ComponentLink2URL: http://digikey.com/product-detail/en/stmicroelectronics/SMC30J28A/497-19297-1-ND/10063322; LastUpdated: 9/2/2020 1:28:08 AM; Lifecycle Status: Active; Minimum Order: 1; Mounting Type: Surface Mount; Operating Temperature: -65°C ~ 150°C (TJ); Package / Case: DO-214AB, SMC; Packaging: TapeAndReel; PartId: 7101; Part Status: Active; Price: 0.41; Series: SMC30J, TRANSIL™; Supplier 1: DigiKey; Supplier Part Number 1: 497-19297-1-ND; Supplier Device Package: SMC (DO-214AB); Unidirectional Channels: 1; Voltage - Clamping (Max) @ Ipp: 45.4V; Voltage - Reverse Standoff (Typ): 28V
footprint DO214AB SMC
pins: 1, 2

## SMC30J28CA
designator D?
TVS DIODE 28V 45.4V SMC; Manufacturer: STMicroelectronics; Bidirectional Channels: 1; Current - Peak Pulse (10/1000µs): 66A; Power Line Protection: No; Power - Peak Pulse: 3000W (3kW); Type: Zener; Voltage - Breakdown (Min): 31.1V; Part Number: SMC30J28CA; Applications: General Purpose; ComponentLink1Description: Datasheet; ComponentLink1URL: http://www.st.com/content/ccc/resource/technical/document/datasheet/83/fa/eb/3e/f9/c8/4f/44/DM00035134.pdf/files/DM00035134.pdf/jcr:content/translations/en.DM00035134.pdf; ComponentLink2Description: DigiKey Link; ComponentLink2URL: http://digikey.com/product-detail/en/stmicroelectronics/SMC30J28CA/497-12217-1-ND/2826690; LastUpdated: 9/2/2020 1:28:01 AM; Lifecycle Status: Active; Minimum Order: 1; Mounting Type: Surface Mount; Operating Temperature: -55°C ~ 175°C (TJ); Package / Case: DO-214AB, SMC; Packaging: TapeAndReel; PartId: 7910; Part Status: Active; Price: 0.43; Series: SMC30J, TRANSIL™; Supplier 1: DigiKey; Supplier Part Number 1: 497-12217-1-ND; Supplier Device Package: SMC; Voltage - Clamping (Max) @ Ipp: 45.4V; Voltage - Reverse Standoff (Typ): 28V
footprint DO214AB SMC
pins: 1, 2

## SMC30J30A
designator D?
TVS DIODE 30V 48.4V SMC; Manufacturer: STMicroelectronics; Current - Peak Pulse (10/1000µs): 62A; Power Line Protection: No; Power - Peak Pulse: 3000W (3kW); Type: Zener; Unidirectional Channels: 1; Voltage - Breakdown (Min): 33.3V; Part Number: SMC30J30A; Applications: General Purpose; ComponentLink1Description: Datasheet; ComponentLink1URL: http://www.st.com/content/ccc/resource/technical/document/datasheet/83/fa/eb/3e/f9/c8/4f/44/DM00035134.pdf/files/DM00035134.pdf/jcr:content/translations/en.DM00035134.pdf; ComponentLink2Description: DigiKey Link; ComponentLink2URL: http://digikey.com/product-detail/en/stmicroelectronics/SMC30J30A/497-12218-1-ND/2826691; LastUpdated: 9/2/2020 1:20:06 AM; Lifecycle Status: Active; Minimum Order: 1; Mounting Type: Surface Mount; Operating Temperature: -55°C ~ 175°C (TJ); Package / Case: DO-214AB, SMC; Packaging: TapeAndReel; PartId: 7037; Part Status: Active; Price: 0.41; Series: SMC30J, TRANSIL™; Supplier 1: DigiKey; Supplier Part Number 1: 497-12218-1-ND; Supplier Device Package: SMC; Voltage - Clamping (Max) @ Ipp: 48.4V; Voltage - Reverse Standoff (Typ): 30V
footprint DO214AB SMC
pins: 1, 2

## SMC30J30CA
designator D?
TVS DIODE 30V 48.4V SMC; Manufacturer: STMicroelectronics; Bidirectional Channels: 1; Current - Peak Pulse (10/1000µs): 62A; Power Line Protection: No; Power - Peak Pulse: 3000W (3kW); Type: Zener; Voltage - Breakdown (Min): 33.3V; Part Number: SMC30J30CA; Applications: General Purpose; ComponentLink1Description: Datasheet; ComponentLink1URL: http://www.st.com/content/ccc/resource/technical/document/datasheet/83/fa/eb/3e/f9/c8/4f/44/DM00035134.pdf/files/DM00035134.pdf/jcr:content/translations/en.DM00035134.pdf; ComponentLink2Description: DigiKey Link; ComponentLink2URL: http://digikey.com/product-detail/en/stmicroelectronics/SMC30J30CA/497-12219-1-ND/2826692; LastUpdated: 9/2/2020 1:28:08 AM; Lifecycle Status: Active; Minimum Order: 1; Mounting Type: Surface Mount; Operating Temperature: -55°C ~ 175°C (TJ); Package / Case: DO-214AB, SMC; Packaging: TapeAndReel; PartId: 8620; Part Status: Active; Price: 0.43; Series: SMC30J, TRANSIL™; Supplier 1: DigiKey; Supplier Part Number 1: 497-12219-1-ND; Supplier Device Package: SMC; Voltage - Clamping (Max) @ Ipp: 48.4V; Voltage - Reverse Standoff (Typ): 30V
footprint DO214AB SMC
pins: 1, 2

## SMC30J33A
designator D?
TVS DIODE 33V 53.3V SMC; Manufacturer: STMicroelectronics; Current - Peak Pulse (10/1000µs): 56A; Power Line Protection: No; Power - Peak Pulse: 3000W (3kW); Type: Zener; Unidirectional Channels: 1; Voltage - Breakdown (Min): 36.7V; Part Number: SMC30J33A; Applications: General Purpose; ComponentLink1Description: Datasheet; ComponentLink1URL: http://www.st.com/content/ccc/resource/technical/document/datasheet/83/fa/eb/3e/f9/c8/4f/44/DM00035134.pdf/files/DM00035134.pdf/jcr:content/translations/en.DM00035134.pdf; ComponentLink2Description: DigiKey Link; ComponentLink2URL: http://digikey.com/product-detail/en/stmicroelectronics/SMC30J33A/497-12220-1-ND/2826693; LastUpdated: 9/2/2020 1:20:00 AM; Lifecycle Status: Active; Minimum Order: 1; Mounting Type: Surface Mount; Operating Temperature: -55°C ~ 175°C (TJ); Package / Case: DO-214AB, SMC; Packaging: TapeAndReel; PartId: 6436; Part Status: Active; Price: 0.40; Series: SMC30J, TRANSIL™; Supplier 1: DigiKey; Supplier Part Number 1: 497-12220-1-ND; Supplier Device Package: SMC; Voltage - Clamping (Max) @ Ipp: 53.3V; Voltage - Reverse Standoff (Typ): 33V
footprint DO214AB SMC
pins: 1, 2

## SMC30J33CA
designator D?
TVS DIODE 33V 53.3V SMC; Manufacturer: STMicroelectronics; Bidirectional Channels: 1; Current - Peak Pulse (10/1000µs): 56A; Power Line Protection: No; Power - Peak Pulse: 3000W (3kW); Type: Zener; Voltage - Breakdown (Min): 36.7V; Part Number: SMC30J33CA; Applications: General Purpose; ComponentLink1Description: Datasheet; ComponentLink1URL: http://www.st.com/content/ccc/resource/technical/document/datasheet/83/fa/eb/3e/f9/c8/4f/44/DM00035134.pdf/files/DM00035134.pdf/jcr:content/translations/en.DM00035134.pdf; ComponentLink2Description: DigiKey Link; ComponentLink2URL: http://digikey.com/product-detail/en/stmicroelectronics/SMC30J33CA/497-12221-1-ND/2826694; LastUpdated: 9/2/2020 1:28:07 AM; Lifecycle Status: Active; Minimum Order: 1; Mounting Type: Surface Mount; Operating Temperature: -55°C ~ 175°C (TJ); Package / Case: DO-214AB, SMC; Packaging: TapeAndReel; PartId: 8592; Part Status: Active; Price: 0.43; Series: SMC30J, TRANSIL™; Supplier 1: DigiKey; Supplier Part Number 1: 497-12221-1-ND; Supplier Device Package: SMC; Voltage - Clamping (Max) @ Ipp: 53.3V; Voltage - Reverse Standoff (Typ): 33V
footprint DO214AB SMC
pins: 1, 2

## SMC30J36A
designator D?
TVS DIODE 36V 58.1V SMC; Manufacturer: STMicroelectronics; Current - Peak Pulse (10/1000µs): 48.41A; Power Line Protection: No; Power - Peak Pulse: 3000W (3kW); Type: Zener; Unidirectional Channels: 1; Voltage - Breakdown (Min): 40V; Part Number: SMC30J36A; Applications: General Purpose; ComponentLink1Description: Datasheet; ComponentLink1URL: http://www.st.com/content/ccc/resource/technical/document/datasheet/83/fa/eb/3e/f9/c8/4f/44/DM00035134.pdf/files/DM00035134.pdf/jcr:content/translations/en.DM00035134.pdf; ComponentLink2Description: DigiKey Link; ComponentLink2URL: http://digikey.com/product-detail/en/stmicroelectronics/SMC30J36A/497-16096-1-ND/5719578; LastUpdated: 9/2/2020 1:20:07 AM; Lifecycle Status: Active; Minimum Order: 1; Mounting Type: Surface Mount; Operating Temperature: -55°C ~ 175°C (TJ); Package / Case: DO-214AB, SMC; Packaging: TapeAndReel; PartId: 7100; Part Status: Active; Price: 0.41; Series: SMC30J, TRANSIL™; Supplier 1: DigiKey; Supplier Part Number 1: 497-16096-1-ND; Supplier Device Package: SMC (DO-214AB); Voltage - Clamping (Max) @ Ipp: 58.1V; Voltage - Reverse Standoff (Typ): 36V
footprint DO214AB SMC
pins: 1, 2

## SMC30J36CA
designator D?
TVS DIODE 36V 58.1V SMC; Manufacturer: STMicroelectronics; Bidirectional Channels: 1; Current - Peak Pulse (10/1000µs): 48.41A; Power Line Protection: No; Power - Peak Pulse: 3000W (3kW); Type: Zener; Voltage - Breakdown (Min): 40V; Part Number: SMC30J36CA; Applications: General Purpose; ComponentLink1Description: Datasheet; ComponentLink1URL: http://www.st.com/content/ccc/resource/technical/document/datasheet/83/fa/eb/3e/f9/c8/4f/44/DM00035134.pdf/files/DM00035134.pdf/jcr:content/translations/en.DM00035134.pdf; ComponentLink2Description: DigiKey Link; ComponentLink2URL: http://digikey.com/product-detail/en/stmicroelectronics/SMC30J36CA/497-16098-1-ND/5719583; LastUpdated: 9/2/2020 1:28:01 AM; Lifecycle Status: Active; Minimum Order: 1; Mounting Type: Surface Mount; Operating Temperature: -55°C ~ 175°C (TJ); Package / Case: DO-214AB, SMC; Packaging: TapeAndReel; PartId: 7907; Part Status: Active; Price: 0.43; Series: SMC30J, TRANSIL™; Supplier 1: DigiKey; Supplier Part Number 1: 497-16098-1-ND; Supplier Device Package: SMC (DO-214AB); Voltage - Clamping (Max) @ Ipp: 58.1V; Voltage - Reverse Standoff (Typ): 36V
footprint DO214AB SMC
pins: 1, 2

## SMC30J40A
designator D?
TVS DIODE 40V 64.5V SMC; Manufacturer: STMicroelectronics; Current - Peak Pulse (10/1000µs): 43.5A; Power Line Protection: No; Power - Peak Pulse: 3000W (3kW); Type: Zener; Unidirectional Channels: 1; Voltage - Breakdown (Min): 44.4V; Part Number: SMC30J40A; Applications: General Purpose; ComponentLink1Description: Datasheet; ComponentLink1URL: http://www.st.com/content/ccc/resource/technical/document/datasheet/83/fa/eb/3e/f9/c8/4f/44/DM00035134.pdf/files/DM00035134.pdf/jcr:content/translations/en.DM00035134.pdf; ComponentLink2Description: DigiKey Link; ComponentLink2URL: http://digikey.com/product-detail/en/stmicroelectronics/SMC30J40A/497-16100-1-ND/5719588; LastUpdated: 9/2/2020 1:20:07 AM; Lifecycle Status: Active; Minimum Order: 1; Mounting Type: Surface Mount; Operating Temperature: -55°C ~ 175°C (TJ); Package / Case: DO-214AB, SMC; Packaging: TapeAndReel; PartId: 7096; Part Status: Active; Price: 0.41; Series: SMC30J, TRANSIL™; Supplier 1: DigiKey; Supplier Part Number 1: 497-16100-1-ND; Supplier Device Package: SMC (DO-214AB); Voltage - Clamping (Max) @ Ipp: 64.5V; Voltage - Reverse Standoff (Typ): 40V
footprint DO214AB SMC
pins: 1, 2

## SMC30J40CA
designator D?
TVS DIODE 40V 64.5V SMC; Manufacturer: STMicroelectronics; Bidirectional Channels: 1; Current - Peak Pulse (10/1000µs): 43.5A; Power Line Protection: No; Power - Peak Pulse: 3000W (3kW); Type: Zener; Voltage - Breakdown (Min): 44.4V; Part Number: SMC30J40CA; Applications: General Purpose; ComponentLink1Description: Datasheet; ComponentLink1URL: http://www.st.com/content/ccc/resource/technical/document/datasheet/83/fa/eb/3e/f9/c8/4f/44/DM00035134.pdf/files/DM00035134.pdf/jcr:content/translations/en.DM00035134.pdf; ComponentLink2Description: DigiKey Link; ComponentLink2URL: http://digikey.com/product-detail/en/stmicroelectronics/SMC30J40CA/497-16102-1-ND/5719593; LastUpdated: 9/2/2020 1:28:08 AM; Lifecycle Status: Active; Minimum Order: 1; Mounting Type: Surface Mount; Operating Temperature: -55°C ~ 175°C (TJ); Package / Case: DO-214AB, SMC; Packaging: TapeAndReel; PartId: 8633; Part Status: Active; Price: 0.43; Series: SMC30J, TRANSIL™; Supplier 1: DigiKey; Supplier Part Number 1: 497-16102-1-ND; Supplier Device Package: SMC (DO-214AB); Voltage - Clamping (Max) @ Ipp: 64.5V; Voltage - Reverse Standoff (Typ): 40V
footprint DO214AB SMC
pins: 1, 2